# Altium schematic symbol library 1N4148W.SchLib: 1 symbol
Pins are listed as number, name and electrical type; pins without a type are passive.

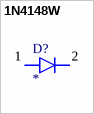
[diagram p0: symbol 1N4148W]

## 1N4148W
designator D?
Small signal diode. 150mA, 100V, SOD523F, RS: 761-4283 Fairchild Semiconductor Mfr. Part No. 1N4148WT; MF: {'manufacturer': u'Diotec Semiconductor'}; Package: None; Value: *; Availability: Unavailable; Price: None; MP: 1N4148W
footprint SOD523F
pins: 1 A1, 2 C1